# Altium footprint library Portablizer_PCB.PcbLib: 22 footprints (part 1 of 2)
Each footprint in its own frame and in the unit in brackets; x right, y up, seen from the top. Pads: shape width x height; smd on the part's side, far side on the other; paste and mask are expansions set on the pad; w line width, h text height; cw(c..) or ccw(c..) is an arc to the next point about the centre after c.
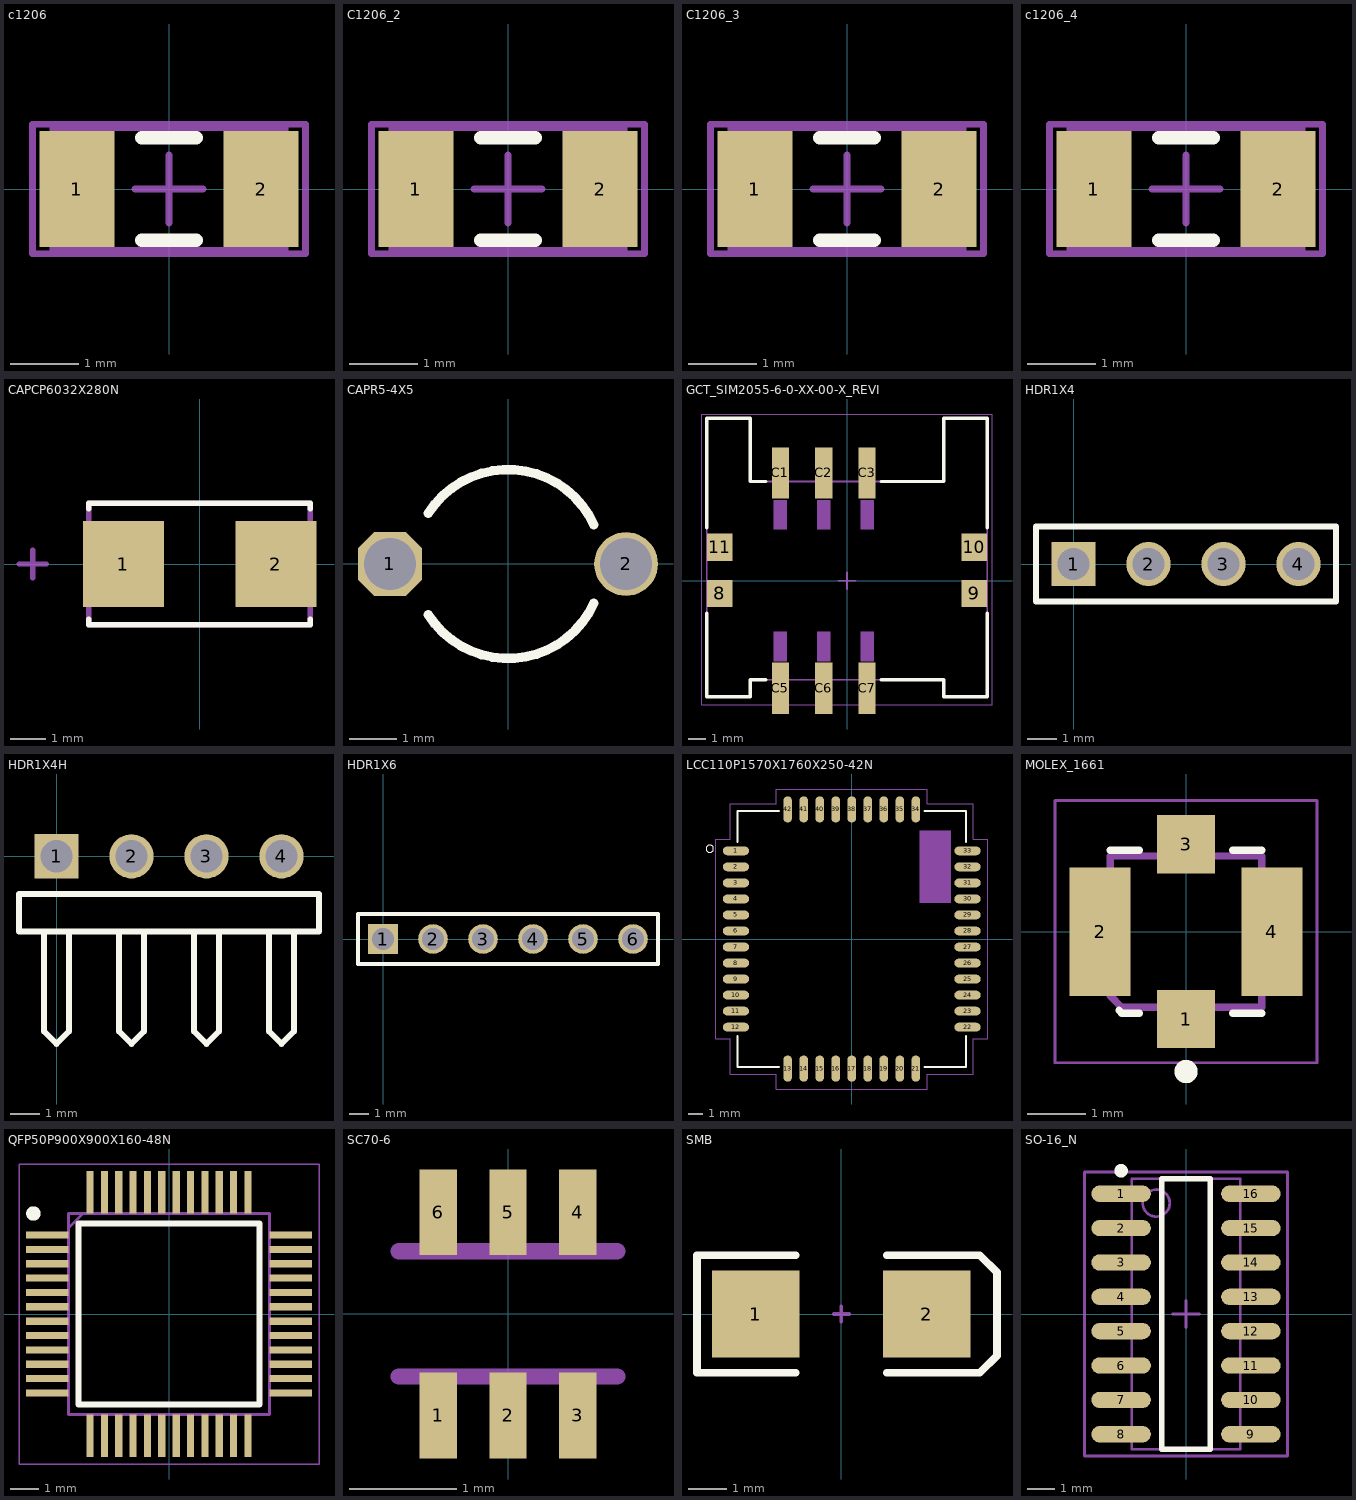
[diagram p0: the footprints below, top view; thin cyan lines are the x and y axes]

## c1206 [mm]
pads (2):
  rect 1.1x1.7 smd: 1(-1.35,0) 2(1.35,0)
Top Overlay:
  lines w0.2: -0.4,-0.75 0.4,-0.75 ; -0.4,0.75 0.4,0.75
Mechanical 13:
  lines w0.1: -1.7,-0.9 1.7,-0.9 1.7,0.9 -1.7,0.9 -1.7,-0.9
Mechanical 15:
  lines w0.1: -0.5,0 0.5,0 ; 0,-0.5 0,0.5 ; -2,-0.95 2,-0.95 2,0.95 -2,0.95 -2,-0.95
3D body: height 1.3, standoff 0, extent -1.7,-0.9 1.7,0.9

## C1206_2 [mm]
pads (2):
  rect 1.1x1.7 smd: 1(-1.35,0) 2(1.35,0)
Top Overlay:
  lines w0.2: -0.4,-0.75 0.4,-0.75 ; -0.4,0.75 0.4,0.75
Mechanical 13:
  lines w0.1: -1.7,-0.9 1.7,-0.9 1.7,0.9 -1.7,0.9 -1.7,-0.9
Mechanical 15:
  lines w0.1: -0.5,0 0.5,0 ; 0,-0.5 0,0.5 ; -2,-0.95 2,-0.95 2,0.95 -2,0.95 -2,-0.95
3D body: height 1.3, standoff 0, extent -1.7,-0.9 1.7,0.9

## C1206_3 [mm]
pads (2):
  rect 1.1x1.7 smd: 1(-1.35,0) 2(1.35,0)
Top Overlay:
  lines w0.2: -0.4,-0.75 0.4,-0.75 ; -0.4,0.75 0.4,0.75
Mechanical 13:
  lines w0.1: -1.7,-0.9 -1.7,0.9 1.7,0.9 1.7,-0.9 -1.7,-0.9
Mechanical 15:
  lines w0.1: -0.5,0 0.5,0 ; 0,-0.5 0,0.5 ; -2,-0.95 -2,0.95 2,0.95 2,-0.95 -2,-0.95
3D body: height 1.3, standoff 0, extent -1.7,-0.9 1.7,0.9

## c1206_4 [mm]
pads (2):
  rect 1.1x1.7 smd: 1(-1.35,0) 2(1.35,0)
Top Overlay:
  lines w0.2: -0.4,-0.75 0.4,-0.75 ; -0.4,0.75 0.4,0.75
Mechanical 13:
  lines w0.1: -1.7,-0.9 -1.7,0.9 1.7,0.9 1.7,-0.9 -1.7,-0.9
Mechanical 15:
  lines w0.1: -0.5,0 0.5,0 ; 0,-0.5 0,0.5 ; -2,-0.95 -2,0.95 2,0.95 2,-0.95 -2,-0.95
3D body: height 1.3, standoff 0, extent -1.7,-0.9 1.7,0.9

## CAPCP6032X280N [mil]
pads (2):
  rect 89x95 smd: 1(-84,0) 2(84,0)
Top Overlay:
  lines w6: -122,-61 -122,-67 122,-67 122,-61 ; -122,61 -122,67 122,67 122,61
Mechanical 1:
  lines w6: -199,0 -169,0 ; -184,-15 -184,15 ; -122,-67 122,-67 122,67 -122,67 -122,-67

## CAPR5-4X5 [mm]
pads (2):
  oct 1.35x1.35 hole 1.1: 1(-2.5,0)
  round 1.35 hole 1.1: 2(2.5,0)
Top Overlay:
  lines w0.2: -1.687,-1.075 ccw(c0,0) 1.819,-0.832 ; -1.687,1.075 cw(c0,0) 1.819,0.832

## GCT_SIM2055-6-0-XX-00-X_REVI [mm]
pads (10):
  rect 1.5x1.6 smd: 8(-7.45,-0.75) 9(7.45,-0.75) 10(7.45,1.95) 11(-7.45,1.95)
  rect 1x3 smd: C1(-3.9,6.3) C2(-1.36,6.3) C3(1.18,6.3) C5(-3.9,-6.3) C6(-1.36,-6.3) C7(1.18,-6.3)
Top Overlay:
  lines w0.2: -8.2,-1.9 -8.2,-6.8 -5.65,-6.8 -5.65,-5.8 -4.75,-5.8 ; -8.2,3.1 -8.2,9.5 -5.65,9.5 -5.65,5.8 -4.75,5.8 ; 2,-5.8 5.65,-5.8 5.65,-6.8 8.2,-6.8 8.2,-1.9 ; 2,5.8 5.65,5.8 5.65,9.5 8.2,9.5 8.2,3.1
Mechanical 4:
  lines w0.1: -8.2,-6.8 -5.65,-6.8 ; -8.2,-6.8 -8.2,9.5 ; -8.2,-6.8 -5.65,-6.8 ; -8.2,-6.8 -8.2,9.5 ; -8.2,9.5 -5.65,9.5 ; -8.2,9.5 -5.65,9.5 ; -5.65,-6.8 -5.65,-5.8 ; -5.65,-6.8 -5.65,-5.8 ; -5.65,-5.8 5.65,-5.8 ; -5.65,-5.8 5.65,-5.8 ; -5.65,5.8 5.65,5.8 ; -5.65,5.8 -5.65,9.5 ; -5.65,5.8 5.65,5.8 ; -5.65,5.8 -5.65,9.5 ; 5.65,-6.8 5.65,-5.8 ; 5.65,-6.8 8.2,-6.8 ; 5.65,-6.8 5.65,-5.8 ; 5.65,-6.8 8.2,-6.8 ; 5.65,5.8 5.65,9.5 ; 5.65,5.8 5.65,9.5 ; 5.65,9.5 8.2,9.5 ; 5.65,9.5 8.2,9.5 ; 8.2,-6.8 8.2,9.5 ; 8.2,-6.8 8.2,9.5
Mechanical 16:
  region: -4.275,-4.7 -3.525,-4.7 -3.525,-3 -4.275,-3
  region: 0.805,3 1.555,3 1.555,4.7 0.805,4.7
  region: -1.735,-4.7 -0.985,-4.7 -0.985,-3 -1.735,-3
  region: -4.275,3 -3.525,3 -3.525,4.7 -4.275,4.7
  region: -1.735,3 -0.985,3 -0.985,4.7 -1.735,4.7
  region: 0.805,-4.7 1.555,-4.7 1.555,-3 0.805,-3
  lines w0.05: -8.5,-7.25 8.5,-7.25 8.5,9.75 -8.5,9.75 -8.5,-7.25
  lines w0.1: -0.5,0 0.5,0 ; 0,-0.5 0,0.5

## HDR1X4 [mm]
pads (4):
  rect 1.5x1.5 hole 1.1: 1(0,0)
  round 1.5 hole 1.1: 2(2.54,0) 3(5.08,0) 4(7.62,0)
Top Overlay:
  lines w0.2: -1.27,-1.27 8.89,-1.27 8.89,1.27 -1.27,1.27 -1.27,-1.27

## HDR1X4H [mm]
pads (4):
  rect 1.5x1.5 hole 1.1: 1(0,0)
  round 1.5 hole 1.1: 2(2.54,0) 3(5.08,0) 4(7.62,0)
Top Overlay:
  lines w0.2: -0.423,-2.54 -0.423,-5.927 0,-6.35 0.423,-5.927 0.423,-2.54 ; 2.117,-2.54 2.117,-5.927 2.54,-6.35 2.963,-5.927 2.963,-2.54 ; 4.657,-2.54 4.657,-5.927 5.08,-6.35 5.503,-5.927 5.503,-2.54 ; 7.197,-2.54 7.197,-5.927 7.62,-6.35 8.043,-5.927 8.043,-2.54 ; -1.27,-2.54 8.89,-2.54 8.89,-1.27 -1.27,-1.27 -1.27,-2.54

## HDR1X6 [mm]
pads (6):
  rect 1.5x1.5 hole 1.1: 1(0,0)
  round 1.5 hole 1.1: 2(2.54,0) 3(5.08,0) 4(7.62,0) 5(10.16,0) 6(12.7,0)
Top Overlay:
  lines w0.2: -1.27,-1.27 13.97,-1.27 13.97,1.27 -1.27,1.27 -1.27,-1.27

## LCC110P1570X1760X250-42N [mm]
pads (42):
  oval 1.8x0.6 smd: 1(-7.95,6.05) 2(-7.95,4.95) 3(-7.95,3.85) 4(-7.95,2.75) 5(-7.95,1.65) 6(-7.95,0.55) 7(-7.95,-0.55) 8(-7.95,-1.65) 9(-7.95,-2.75) 10(-7.95,-3.85) 11(-7.95,-4.95) 12(-7.95,-6.05) 22(7.95,-6.05) 23(7.95,-4.95) 24(7.95,-3.85) 25(7.95,-2.75) 26(7.95,-1.65) 27(7.95,-0.55) 28(7.95,0.55) 29(7.95,1.65) 30(7.95,2.75) 31(7.95,3.85) 32(7.95,4.95) 33(7.95,6.05)
  oval 0.6x1.8 smd: 13(-4.4,-8.9) 14(-3.3,-8.9) 15(-2.2,-8.9) 16(-1.1,-8.9) 17(0,-8.9) 18(1.1,-8.9) 19(2.2,-8.9) 20(3.3,-8.9) 21(4.4,-8.9) 34(4.4,8.9) 35(3.3,8.9) 36(2.2,8.9) 37(1.1,8.9) 38(0,8.9) 39(-1.1,8.9) 40(-2.2,8.9) 41(-3.3,8.9) 42(-4.4,8.9)
Top Overlay:
  circle w0: c-9.75,6.2 r0.254
  lines w0.127: -7.85,-6.65 -7.85,-8.8 -5,-8.8 ; -7.85,6.65 -7.85,8.8 -5,8.8 ; 5,-8.8 7.85,-8.8 7.85,-6.65 ; 5,8.8 7.85,8.8 7.85,6.65
Mechanical 4:
  region: 4.656,7.43 6.8,7.43 6.8,2.483 4.656,2.483
  region: 4.656,7.43 6.8,7.43 6.8,2.483 4.656,2.483
Mechanical 16:
  region: 4.658,7.43 6.8,7.43 6.8,2.484 4.658,2.484
  lines w0.05: -9.35,-6.85 -9.35,6.85 -8.35,6.85 -8.35,9.3 -5.2,9.3 -5.2,10.3 5.2,10.3 5.2,9.3 8.35,9.3 8.35,6.85 9.35,6.85 9.35,-6.85 8.35,-6.85 8.35,-9.3 5.2,-9.3 5.2,-10.3 -5.2,-10.3 -5.2,-9.3 -8.35,-9.3 -8.35,-6.85 -9.35,-6.85

## MOLEX_1661 [mm]
pads (4):
  rect 1x1 smd: 1(0,-1.5) 3(0,1.5)
  rect 1.05x2.2 smd: 2(-1.475,0) 4(1.475,0)
Top Overlay:
  circle w0.2: c0,-2.4 r0.1
  lines w0.127: -1.3,1.4 -0.8,1.4 ; -1.15,-1.35 -1.1,-1.4 -0.8,-1.4 ; 0.8,-1.4 1.3,-1.4 ; 0.8,1.4 1.3,1.4
Mechanical 4:
  lines w0.127: -1.3,-1.1 -1.1,-1.3 ; -1.3,-1.1 -1.3,1.3 ; -1.3,-1.1 -1.1,-1.3 ; -1.3,-1.1 -1.3,1.3 ; -1.3,1.3 1.3,1.3 ; -1.3,1.3 1.3,1.3 ; -1.1,-1.3 1.3,-1.3 ; -1.1,-1.3 1.3,-1.3 ; 1.3,-1.3 1.3,1.3 ; 1.3,-1.3 1.3,1.3
Mechanical 16:
  lines w0.05: -2.25,-2.25 -2.25,2.25 2.25,2.25 2.25,-2.25 -2.25,-2.25

## QFP50P900X900X160-48N [mm]
pads (48):
  rect 1.475x0.25 smd: 1(-4.238,2.75) 2(-4.238,2.25) 3(-4.238,1.75) 4(-4.238,1.25) 5(-4.238,0.75) 6(-4.238,0.25) 7(-4.238,-0.25) 8(-4.238,-0.75) 9(-4.238,-1.25) 10(-4.238,-1.75) 11(-4.238,-2.25) 12(-4.238,-2.75) 25(4.238,-2.75) 26(4.238,-2.25) 27(4.238,-1.75) 28(4.238,-1.25) 29(4.238,-0.75) 30(4.238,-0.25) 31(4.238,0.25) 32(4.238,0.75) 33(4.238,1.25) 34(4.238,1.75) 35(4.238,2.25) 36(4.238,2.75)
  rect 0.25x1.475 smd: 13(-2.75,-4.238) 14(-2.25,-4.238) 15(-1.75,-4.238) 16(-1.25,-4.238) 17(-0.75,-4.238) 18(-0.25,-4.238) 19(0.25,-4.238) 20(0.75,-4.238) 21(1.25,-4.238) 22(1.75,-4.238) 23(2.25,-4.238) 24(2.75,-4.238) 37(2.75,4.238) 38(2.25,4.238) 39(1.75,4.238) 40(1.25,4.238) 41(0.75,4.238) 42(0.25,4.238) 43(-0.25,4.238) 44(-0.75,4.238) 45(-1.25,4.238) 46(-1.75,4.238) 47(-2.25,4.238) 48(-2.75,4.238)
Top Overlay:
  circle w0.25: c-4.725,3.5 r0.125
  lines w0.2: -3.15,-3.15 3.15,-3.15 3.15,3.15 -3.15,3.15 -3.15,-3.15
Mechanical 15:
  lines w0.1: -3.5,3 -3,3.5 ; -3.5,-3.5 3.5,-3.5 3.5,3.5 -3.5,3.5 -3.5,-3.5
Mechanical 16:
  lines w0.05: -5.225,-5.225 5.225,-5.225 5.225,5.225 -5.225,5.225 -5.225,-5.225

## SC70-6 [mm]
pads (6):
  rect 0.35x0.8 smd: 1(-0.65,-0.95) 2(0,-0.95) 3(0.65,-0.95) 4(0.65,0.95) 5(0,0.95) 6(-0.65,0.95)
Top Paste:
  region: -0.802,-0.575 -0.5,-0.575 -0.5,-1.329 -0.802,-1.329
  region: -0.15,-0.575 0.15,-0.575 0.15,-1.329 -0.15,-1.329
  region: 0.501,-0.575 0.8,-0.575 0.8,-1.329 0.501,-1.329
  region: 0.8,0.578 0.502,0.578 0.502,1.325 0.8,1.325
  region: 0.15,0.577 -0.15,0.577 -0.15,1.325 0.15,1.325
  region: -0.5,0.578 -0.804,0.578 -0.804,1.325 -0.5,1.325
Top Solder:
  region: -0.876,-0.5 -0.425,-0.5 -0.425,-1.402 -0.876,-1.402
  region: -0.225,-0.5 0.225,-0.5 0.225,-1.402 -0.225,-1.402
  region: 0.426,-0.5 0.875,-0.5 0.875,-1.403 0.426,-1.403
  region: 0.875,0.502 0.427,0.502 0.427,1.4 0.875,1.4
  region: 0.225,0.5 -0.225,0.5 -0.225,1.4 0.225,1.4
  region: -0.425,0.501 -0.877,0.501 -0.877,1.4 -0.425,1.4
Mechanical 1:
  region: -0.151,-0.625 0.15,-0.625 0.15,-1.204 -0.151,-1.204
  region: -0.802,-0.625 -0.5,-0.625 -0.5,-1.203 -0.802,-1.203
  region: 0.501,-0.625 0.8,-0.625 0.8,-1.203 0.501,-1.203
  region: 0.8,0.627 0.501,0.627 0.501,1.2 0.8,1.2
  region: 0.15,0.627 -0.151,0.627 -0.151,1.2 0.15,1.2
  region: -0.5,0.627 -0.803,0.627 -0.803,1.2 -0.5,1.2
  lines w0.152: -1.022,-0.585 1.022,-0.585 ; -1.022,0.585 1.022,0.585

## SMB [mm]
pads (2):
  rect 2.3x2.3 smd: 1(-2.25,0) 2(2.25,0)
Top Overlay:
  lines w0.2: -1.2,-1.55 -3.8,-1.55 -3.8,1.55 -1.2,1.55 ; 1.2,-1.55 3.65,-1.55 4.1,-1.1 4.1,1.1 3.65,1.55 1.2,1.55
Mechanical 1:
  lines w0.1: -0.2,0 0.2,0 ; 0,-0.2 0,0.2

## SO-16_N [mm]
pads (16):
  oval 2.2x0.6 smd: 1(-2.4,4.445) 2(-2.4,3.175) 3(-2.4,1.905) 4(-2.4,0.635) 5(-2.4,-0.635) 6(-2.4,-1.905) 7(-2.4,-3.175) 8(-2.4,-4.445) 9(2.4,-4.445) 10(2.4,-3.175) 11(2.4,-1.905) 12(2.4,-0.635) 13(2.4,0.635) 14(2.4,1.905) 15(2.4,3.175) 16(2.4,4.445)
Top Overlay:
  circle w0.25: c-2.4,5.295 r0.125
  lines w0.2: -0.9,-5 0.9,-5 0.9,5 -0.9,5 -0.9,-5
Mechanical 13:
  circle w0.1: c-1.1,4.1 r0.5
  lines w0.1: -2,-5 2,-5 2,5 -2,5 -2,-5
Mechanical 15:
  lines w0.1: -0.5,0 0.5,0 ; 0,-0.5 0,0.5 ; -3.75,-5.25 3.75,-5.25 3.75,5.25 -3.75,5.25 -3.75,-5.25
3D body: height 1.75, standoff 0, extent -2,-5 2,5